# Altium footprint library LM1117.PcbLib: 1 footprints
Each footprint in its own frame and in the unit in brackets; x right, y up, seen from the top. Pads: shape width x height; smd on the part's side, far side on the other; paste and mask are expansions set on the pad; w line width, h text height; cw(c..) or ccw(c..) is an arc to the next point about the centre after c.
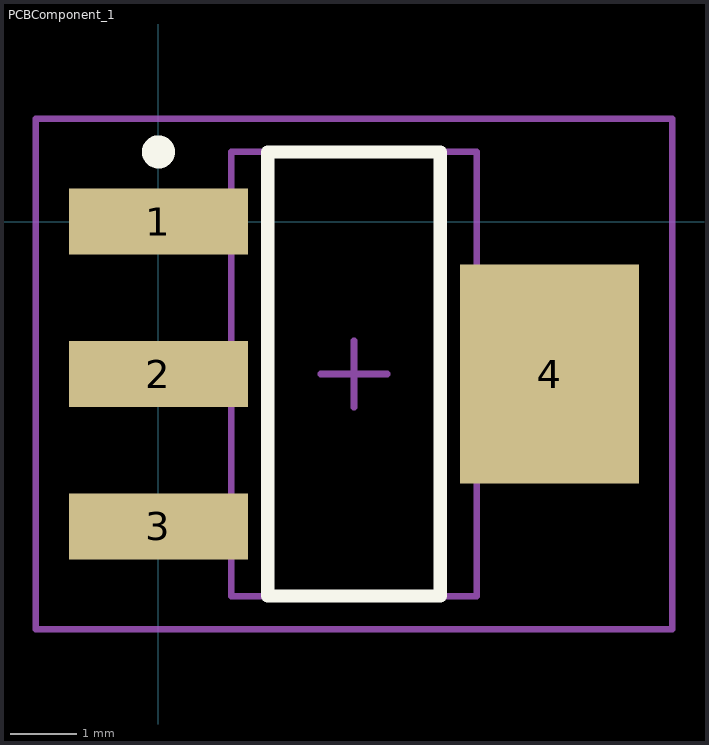
[diagram p0: the footprint, top view; thin cyan lines are the x and y axes]

## PCBComponent_1 [mm]
pads (4):
  rect 2.7x1 smd: 1(0,0) 2(0,-2.3) 3(0,-4.6)
  rect 2.7x3.3 smd: 4(5.9,-2.3)
Top Overlay:
  circle w0.25: c0,1.05 r0.125
  lines w0.2: 1.65,-5.65 1.65,1.05 4.25,1.05 4.25,-5.65 1.65,-5.65
Mechanical 13:
  lines w0.1: 1.1,-5.65 1.1,1.05 4.8,1.05 4.8,-5.65 1.1,-5.65
Mechanical 15:
  lines w0.1: 2.45,-2.3 3.45,-2.3 ; 2.95,-2.8 2.95,-1.8 ; -1.85,-6.15 -1.85,1.55 7.75,1.55 7.75,-6.15 -1.85,-6.15
3D body: height 1.7, standoff 0, extent 1.1,-5.65 4.8,1.05